# EAGLE library part HIROSE-FH40-64S-0.5SV (library gwu_mpnl_ucat_v10)
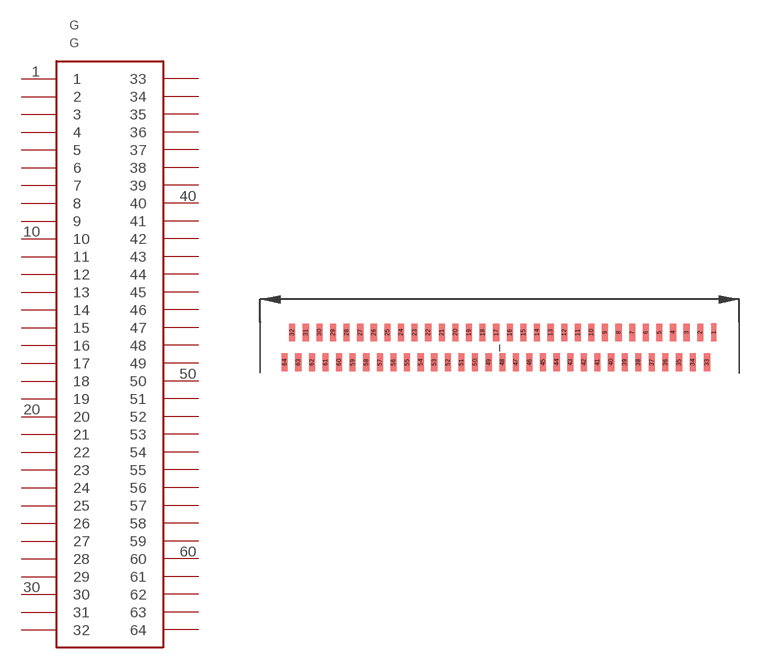
[diagram p23: symbol with the pads of HIROSE-FH40-64S-0.5SV; footprint HIROSE-FH40-64S-0.5SV]

Designator prefix G

## HIROSE-FH40-64S-0.5SV  [HIROSE-FH40-64S-0.5SV]
1  1
2  2
3  3
4  4
5  5
6  6
7  7
8  8
9  9
10  10
11  11
12  12
13  13
14  14
15  15
16  16
17  17
18  18
19  19
20  20
21  21
22  22
23  23
24  24
25  25
26  26
27  27
28  28
29  29
30  30
31  31
32  32
33  33
34  34
35  35
36  36
37  37
38  38
39  39
40  40
41  41
42  42
43  43
44  44
45  45
46  46
47  47
48  48
49  49
50  50
51  51
52  52
53  53
54  54
55  55
56  56
57  57
58  58
59  59
60  60
61  61
62  62
63  63
64  64

## Footprint HIROSE-FH40-64S-0.5SV (pad centres in mm)
smd 0.45 x 1.3: 1 0,0; 2 -1,0; 3 -2,0; 4 -3,0; 5 -4,0; 6 -5,0; 7 -6,0; 8 -7,0; 9 -8,0; 10 -9,0; 11 -10,0; 12 -11,0; 13 -12,0; 14 -13,0; 15 -14,0; 16 -15,0; 17 -16,0; 18 -17,0; 19 -18,0; 20 -19,0; 21 -20,0; 22 -21,0; 23 -22,0; 24 -23,0; 25 -24,0; 26 -25,0; 27 -26,0; 28 -27,0; 29 -28,0; 30 -29,0; 31 -30,0; 32 -31,0; 33 -0.5,-2.198; 34 -1.554,-2.198; 35 -2.554,-2.198; 36 -3.554,-2.198; 37 -4.554,-2.198; 38 -5.554,-2.198; 39 -6.554,-2.198; 40 -7.554,-2.198; 41 -8.554,-2.198; 42 -9.554,-2.198; 43 -10.554,-2.198; 44 -11.554,-2.198; 45 -12.554,-2.198; 46 -13.554,-2.198; 47 -14.554,-2.198; 48 -15.554,-2.198; 49 -16.554,-2.198; 50 -17.554,-2.198; 51 -18.554,-2.198; 52 -19.554,-2.198; 53 -20.554,-2.198; 54 -21.554,-2.198; 55 -22.554,-2.198; 56 -23.554,-2.198; 57 -24.554,-2.198; 58 -25.554,-2.198; 59 -26.554,-2.198; 60 -27.554,-2.198; 61 -28.554,-2.198; 62 -29.554,-2.198; 63 -30.554,-2.198; 64 -31.554,-2.198